# Altium schematic symbol library RF.Attenuators.SchLib: 5 symbols
Pins are listed as number, name and electrical type; pins without a type are passive.

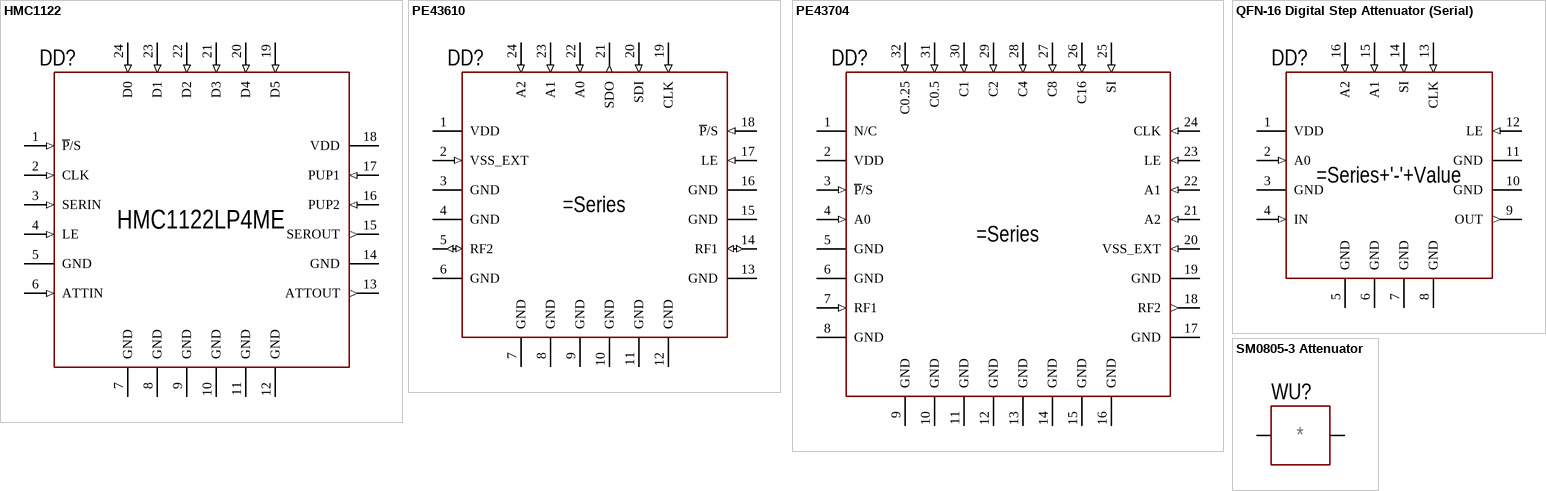
[diagram p0: symbols HMC1122 to SM0805-3 Attenuator]

## HMC1122
designator DD?, comment HMC1122LP4ME
0.1 GHz to 6.0 GHz, 0.5 dB LSB, 6-Bit, Silicon Digital Attenuator; Part: HMC1122; Package: LP4ME
footprint QFN-24_4.00x4.00mm_EP_2.70x2.70mm (HCP-24-3) (QFN, 24-Leads, Body 4.00x4.00mm, Pitch 0.50mm, Thermal Pad 2.70x2.70mm, IPC Medium Density)
pins: 1 ~{P}/S (in), 2 CLK (in), 3 SERIN (in), 4 LE (in), 5 GND, 6 ATTIN (in), 7 GND, 8 GND, 9 GND, 10 GND, 11 GND, 12 GND, 13 ATTOUT (out), 14 GND, 15 SEROUT (out), 16 PUP2 (in), 17 PUP1 (in), 18 VDD, 19 D5 (in), 20 D4 (in), 21 D3 (in), 22 D2 (in), 23 D1 (in), 24 D0 (in), PAD GND hidden to GND

## PE43610
designator DD?
UltraCMOS® RF Digital Step Attenuator, 9 kHz - 13 GHz
pins: 1 VDD, 2 VSS_EXT (in), 3 GND, 4 GND, 5 RF2 (io), 6 GND, 7 GND, 8 GND, 9 GND, 10 GND, 11 GND, 12 GND, 13 GND, 14 RF1 (io), 15 GND, 16 GND, 17 LE (in), 18 ~{P}/S (in), 19 CLK (in), 20 SDI (in), 21 SDO (out), 22 A0 (in), 23 A1 (in), 24 A2 (in), PAD GND hidden to GND

## PE43704
designator DD?
UltraCMOS® RF Digital Step Attenuator, 7-bit, 31.75 dB with Optional VssEXT Bypass Mode 9 kHz - 8 GHz
pins: 1 N/C, 2 VDD, 3 ~{P}/S (in), 4 A0 (in), 5 GND, 6 GND, 7 RF1 (in), 8 GND, 9 GND, 10 GND, 11 GND, 12 GND, 13 GND, 14 GND, 15 GND, 16 GND, 17 GND, 18 RF2 (out), 19 GND, 20 VSS_EXT (in), 21 A2 (in), 22 A1 (in), 23 LE (in), 24 CLK (in), 25 SI (in), 26 C16 (in), 27 C8 (in), 28 C4 (in), 29 C2 (in), 30 C1 (in), 31 C0.5 (in), 32 C0.25 (in), PAD GND hidden to GND

## QFN-16 Digital Step Attenuator (Serial)
designator DD?
QFN-16 Digital Step Attenuator with Serial Interface
footprint QFN-16_3.00x3.00mm_EP_1.70x1.70mm (QFN, 16-Leads, Body 3.00x3.00mm, Pitch 0.50mm, Thermal Pad 1.70x1.70mm, IPC Medium Density)
pins: 1 VDD, 2 A0 (in), 3 GND, 4 IN (in), 5 GND, 6 GND, 7 GND, 8 GND, 9 OUT (out), 10 GND, 11 GND, 12 LE (in), 13 CLK (in), 14 SI (in), 15 A1 (in), 16 A2 (in), PAD GND hidden to GND

## SM0805-3 Attenuator
designator WU?, comment *-*-*  (value not drawn)
RF Attenuator, 0805 3-Lead Package; Series: *; Index: *; Value: *
footprint SM0805-3 (0805 Package, 3-Leads)
pins: 1 IN, 2 OUT, 3 GND (power) hidden to GND